# Altium footprint library 1N4007.PcbLib: 1 footprints
Each footprint in its own frame and in the unit in brackets; x right, y up, seen from the top. Pads: shape width x height; smd on the part's side, far side on the other; paste and mask are expansions set on the pad; w line width, h text height; cw(c..) or ccw(c..) is an arc to the next point about the centre after c.
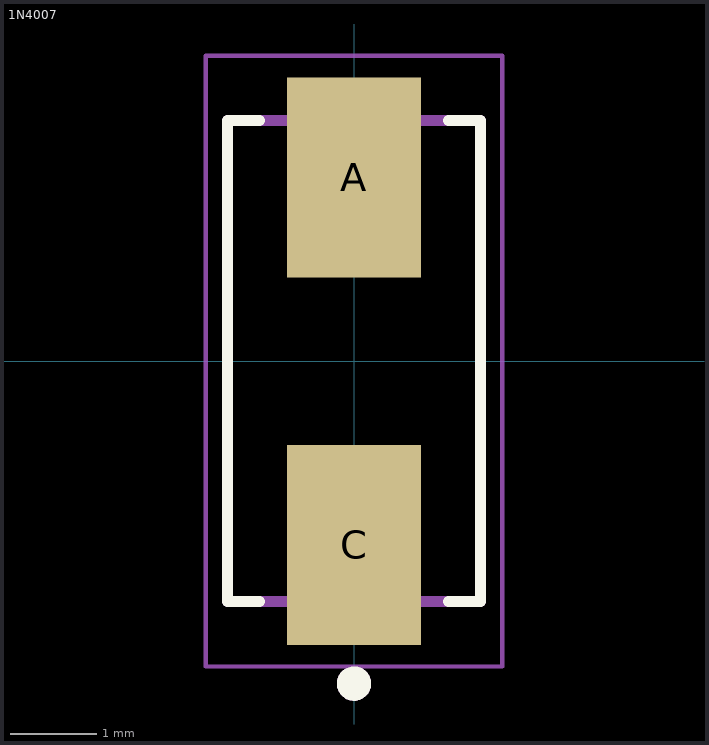
[diagram p0: the footprint, top view; thin cyan lines are the x and y axes]

## 1N4007 [mm]
pads (2):
  rect 1.56x2.33 smd: A(0,2.14) C(0,-2.14)
Top Overlay:
  circle w0.2: c0,-3.755 r0.1
  lines w0.127: -1.1,-2.8 -1.475,-2.8 -1.475,2.8 -1.1,2.8 ; 1.1,-2.8 1.475,-2.8 1.475,2.8 1.1,2.8
Mechanical 13:
  circle w0.2: c0,-3.755 r0.1
  lines w0.127: -1.475,-2.8 1.475,-2.8 1.475,2.8 -1.475,2.8 -1.475,-2.8
Mechanical 15:
  lines w0.05: -1.725,-3.555 1.725,-3.555 1.725,3.555 -1.725,3.555 -1.725,-3.555
3D body "1n4007.step": height 2.47, standoff 0.04, extent -1.555,-2.65 1.555,2.65